# Altium footprint library SOD-323_L1.8-W1.3-LS2.5-BI.PcbLib: 1 footprints
Each footprint in its own frame and in the unit in brackets; x right, y up, seen from the top. Pads: shape width x height; smd on the part's side, far side on the other; paste and mask are expansions set on the pad; w line width, h text height; cw(c..) or ccw(c..) is an arc to the next point about the centre after c.
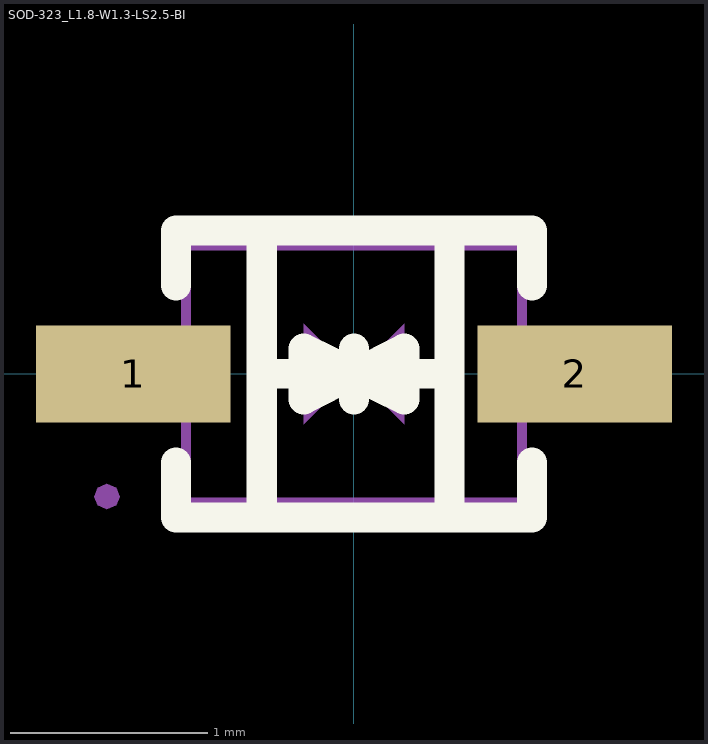
[diagram p0: the footprint, top view; thin cyan lines are the x and y axes]

## SOD-323_L1.8-W1.3-LS2.5-BI [mm]
pads (2):
  rect 0.985x0.49 smd: 1(-1.118,0) 2(1.118,0)
Top Overlay:
  lines w0.152: -0.901,-0.448 -0.901,-0.726 0.901,-0.726 0.901,-0.448 ; -0.901,0.448 -0.901,0.726 0.901,0.726 0.901,0.448 ; -0.467,-0.726 -0.467,0.726 ; 0.483,-0.726 0.483,0.726
  lines w0.154: -0.467,0 0.483,0.003 ; -0.127,0 0.003,0 0.254,0.127 0.254,-0.127 0.002,-0.003 ; -0.002,0.003 -0.254,0.127 -0.254,-0.127 -0.003,0 0.127,0 ; 0,-0.127 0,0.127
Mechanical 6:
  region: 0.254,-0.254 0.254,0.254 0,0
  region: -0.254,0.254 -0.254,-0.254 0,0
Mechanical 15:
  region: -1.25,-0.163 -1.25,0.163 -0.95,0.163 -0.95,-0.163
  region: -0.96,-0.163 -0.96,0.163 -0.84,0.163 -0.84,-0.163
  region: 0.95,-0.163 0.95,0.163 1.25,0.163 1.25,-0.163
  region: 0.84,-0.163 0.84,0.163 0.96,0.163 0.96,-0.163
  region: -1.186,-0.62 -1.204,-0.575 -1.25,-0.556 -1.296,-0.575 -1.314,-0.62 -1.296,-0.665 -1.25,-0.684 -1.204,-0.665
  lines w0.051: -0.85,-0.65 0.85,-0.65 0.85,0.65 -0.85,0.65 -0.85,-0.65